# EAGLE library part DB37M/90 (library connect)
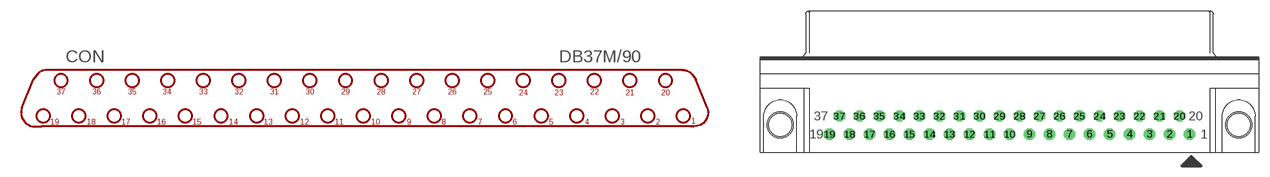
[diagram p15: symbol with the pads of D-37M/90; footprint D-37M/90]

Designator prefix CON

## DB37M/90  [D-37M/90]
1  1  pas
2  2  pas
3  3  pas
4  4  pas
5  5  pas
6  6  pas
7  7  pas
8  8  pas
9  9  pas
10  10  pas
11  11  pas
12  12  pas
13  13  pas
14  14  pas
15  15  pas
16  16  pas
17  17  pas
18  18  pas
19  19  pas
20  20  pas
21  21  pas
22  22  pas
23  23  pas
24  24  pas
25  25  pas
26  26  pas
27  27  pas
28  28  pas
29  29  pas
30  30  pas
31  31  pas
32  32  pas
33  33  pas
34  34  pas
35  35  pas
36  36  pas
37  37  pas

## Footprint D-37M/90 (pad centres in mm)
drill 1.016 pad 1.575 octagon: 1 25.146,-1.27; 2 22.352,-1.27; 3 19.558,-1.27; 4 16.764,-1.27; 5 13.97,-1.27; 6 11.176,-1.27; 7 8.382,-1.27; 8 5.588,-1.27; 9 2.794,-1.27; 10 0,-1.27; 11 -2.794,-1.27; 12 -5.588,-1.27; 13 -8.382,-1.27; 14 -11.176,-1.27; 15 -13.97,-1.27; 16 -16.764,-1.27; 17 -19.558,-1.27; 18 -22.352,-1.27; 19 -25.146,-1.27; 20 23.749,1.27; 21 20.955,1.27; 22 18.161,1.27; 23 15.367,1.27; 24 12.573,1.27; 25 9.779,1.27; 26 6.985,1.27; 27 4.191,1.27; 28 1.397,1.27; 29 -1.397,1.27; 30 -4.191,1.27; 31 -6.985,1.27; 32 -9.779,1.27; 33 -12.573,1.27; 34 -15.367,1.27; 35 -18.161,1.27; 36 -20.955,1.27; 37 -23.749,1.27
hole 3.2 at 32.004,0
hole 3.2 at -32.004,0